# Altium footprint library Cnverter.PcbLib: 105 footprints (part 6 of 7)
Each footprint in its own frame and in the unit in brackets; x right, y up, seen from the top. Pads: shape width x height; smd on the part's side, far side on the other; paste and mask are expansions set on the pad; w line width, h text height; cw(c..) or ccw(c..) is an arc to the next point about the centre after c.
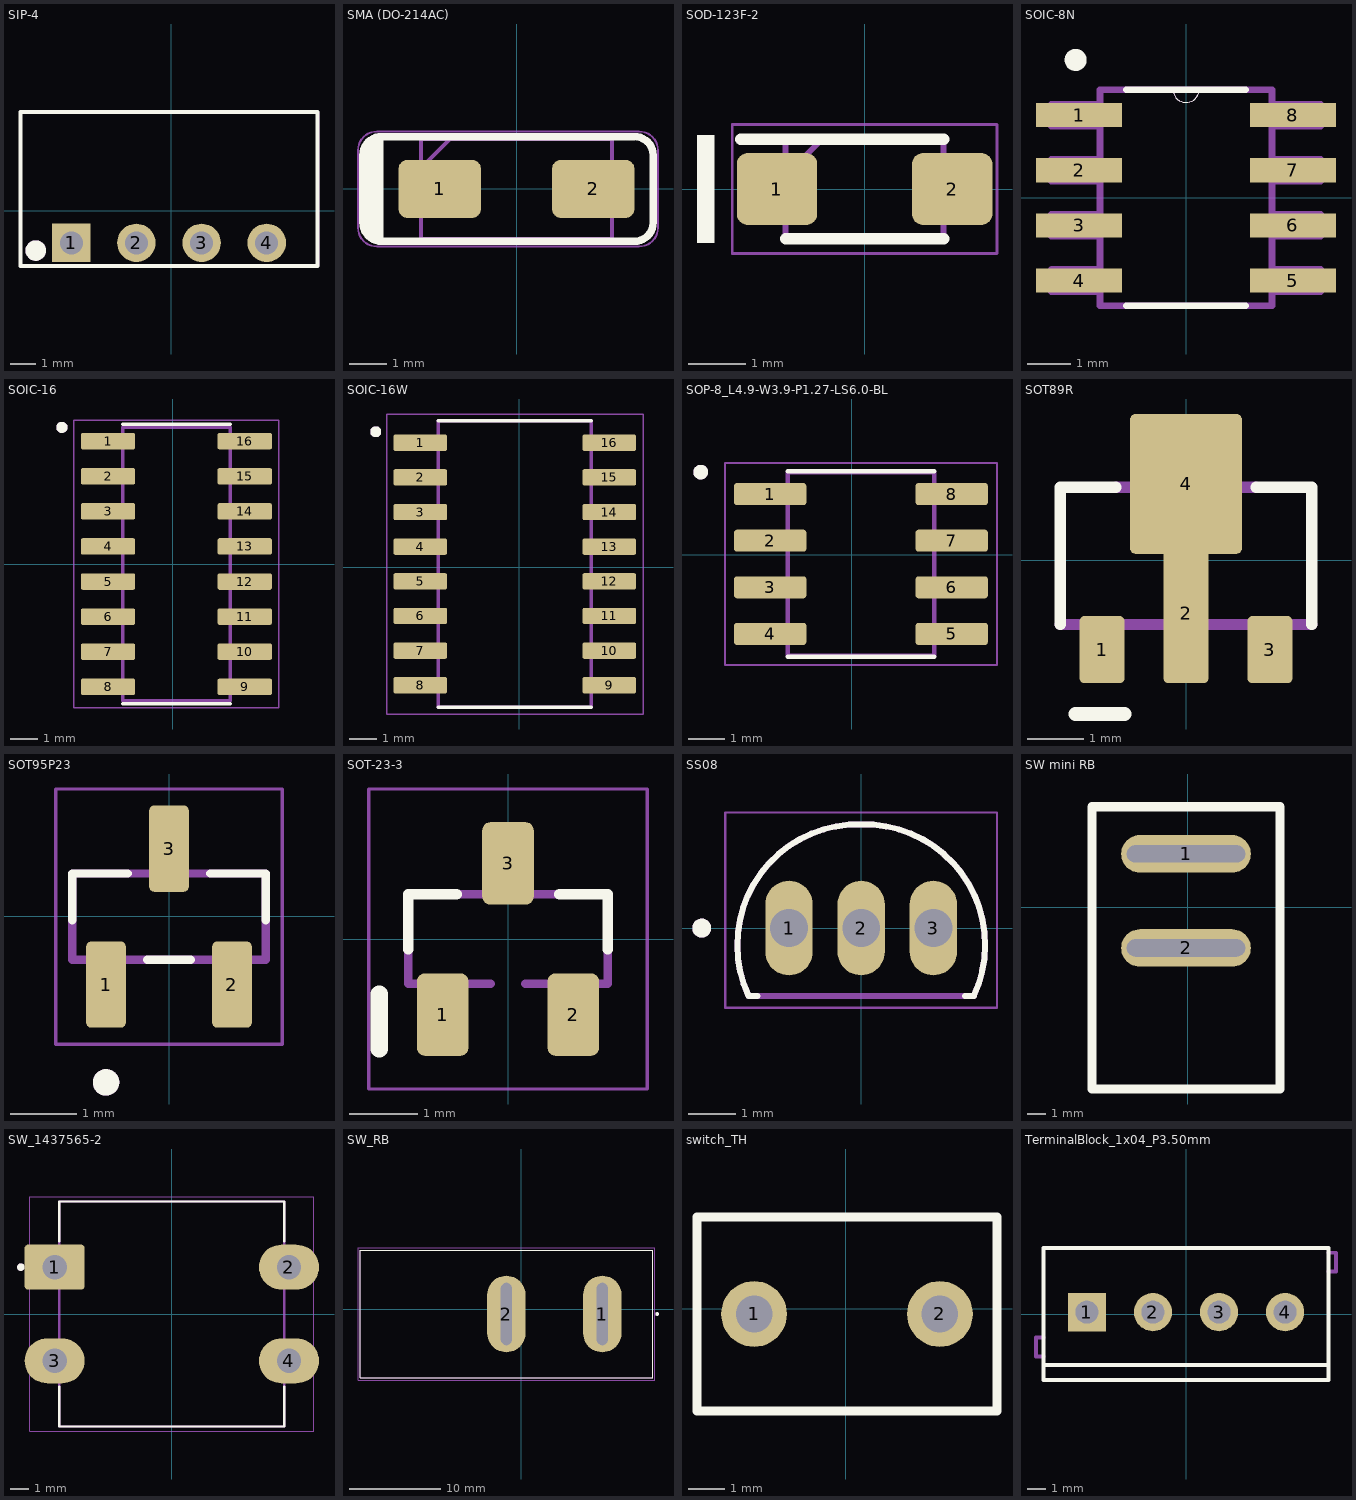
[diagram p5: the footprints below, top view; thin cyan lines are the x and y axes]

## SIP-4 [mm]
pads (4):
  rect 1.5x1.5 hole 0.9 paste+0 mask+0.051: 1(-3.891,-1.255)
  round 1.5 hole 0.9 paste+0 mask+0.051: 2(-1.351,-1.255) 3(1.189,-1.255) 4(3.729,-1.255)
Top Overlay:
  circle w0.4: c-5.281,-1.555 r0.2
  lines w0.152: -5.88,-2.154 5.718,-2.154 5.718,3.846 -5.88,3.846 -5.88,-2.154
Top Courtyard:
  circle w0.4: c-5.281,-1.555 r0.2
  region: 5.619,-2.105 5.669,-2.105 5.669,3.795 -5.831,3.795 -5.831,-2.105 -0.081,-2.105 -0.081,-2.205 -5.881,-2.205 -5.931,-2.155 -5.931,3.845 -5.881,3.895 5.719,3.895 5.769,3.845 5.769,-2.155 5.719,-2.205 -0.031,-2.205 -0.031,-2.105
3D body "B_S-1WR3_HLK.step": height 10.16, standoff -5.49, extent -5.882,-2.136 5.726,3.858

## SMA (DO-214AC) [mm] "SMA (DO-214AC)"
pads (2):
  rrect30% 2.2x1.55 smd: 1(-2.05,0) 2(2.05,0)
Top Overlay:
  rectangle: -3.86,-1.4 -3.555,1.4
  region: -4.1,0.9 -4.1,0.962 -4.076,1.084 -4.028,1.198 -3.959,1.301 -3.916,1.345 -3.861,1.4 -3.6,1.4 -3.6,-1.4 -3.624,-1.4 -3.67,-1.391 -3.714,-1.373 -3.754,-1.346 -3.771,-1.329 -4,-1.1 -4.024,-1.076 -4.061,-1.02 -4.087,-0.958 -4.1,-0.892 -4.1,-0.859 -4.1,0.6
  lines w0.2: -4.1,-0.9 ccw(c-3.6,-0.9) -3.6,-1.4 3.15,-1.4 ccw(c3.15,-0.9) 3.65,-0.9 3.65,0.9 ccw(c3.15,0.9) 3.15,1.4 -3.6,1.4 ccw(c-3.6,0.9) -4.1,0.9 -4.1,-0.9
Top Assembly:
  lines w0.1: -2.552,0.558 -1.778,1.332 ; -2.552,-1.332 2.552,-1.332 2.552,1.332 -2.552,1.332 -2.552,-1.332
Top Courtyard:
  lines w0.05: -4.232,-1.037 ccw(c-3.732,-1.037) -3.732,-1.537 3.278,-1.537 ccw(c3.278,-1.037) 3.778,-1.037 3.778,1.034 ccw(c3.278,1.034) 3.278,1.534 -3.732,1.534 ccw(c-3.732,1.034) -4.232,1.034 -4.232,-1.037
3D body "B340A-E3_61T.stp": height 2.29, standoff 0, extent -2.552,-1.332 2.552,1.332

## SOD-123F-2 [mm] "SODFL3617X108N"
pads (2):
  rrect30% 1.4x1.25 smd: 1(-1.525,0) 2(1.525,0)
Top Overlay:
  rectangle: -2.918,-0.94 -2.613,0.94
  lines w0.2: -2.155,0.862 1.375,0.862 ; -1.375,-0.862 1.375,-0.862
Top Assembly:
  lines w0.1: -1.375,0.232 -0.745,0.862 ; -1.375,-0.862 -1.375,0.862 1.375,0.862 1.375,-0.862 -1.375,-0.862
Top Courtyard:
  lines w0.05: -2.305,-1.125 -2.305,1.125 2.305,1.125 2.305,-1.125 -2.305,-1.125
3D body "MBR1020VL.stp": height 1.08, standoff 0, extent -1.8,-0.863 1.8,0.863

## SOIC-8N [mil]
pads (8):
  rect 78x22 smd: 1(-97,75) 2(-97,25) 3(-97,-25) 4(-97,-75) 5(97,-75) 6(97,-25) 7(97,25) 8(97,75)
Top Overlay:
  circle w10: c-100,125 r5
  lines w0: -12,98.08 ccw(c0,98.5) 12,98.92
  lines w6: -54,-98 54,-98 ; -54,98 -12,98 54,98
Top Assembly:
  lines w0: -12,98.08 ccw(c0,98.5) 12,98.92
  lines w6: -122,-85 -122,-65 -78,-65 -78,-85 -122,-85 ; -122,-35 -122,-15 -78,-15 -78,-35 -122,-35 ; -122,15 -122,35 -78,35 -78,15 -122,15 ; -122,65 -122,85 -78,85 -78,65 -122,65 ; -78,-98 78,-98 78,98 -12,98 -78,98 -78,-98 ; 78,-85 78,-65 122,-65 122,-85 78,-85 ; 78,-35 78,-15 122,-15 122,-35 78,-35 ; 78,15 78,35 122,35 122,15 78,15 ; 78,65 78,85 122,85 122,65 78,65
3D body "step_temp.STEP": height 67.32, standoff 0, extent -122.05,-98.43 122.05,98.43

## SOIC-16 [mm]
pads (16):
  rrect25% 1.97x0.6 smd paste+0 mask+0.102: 1(-2.348,4.445) 2(-2.348,3.175) 3(-2.348,1.905) 4(-2.348,0.635) 5(-2.348,-0.635) 6(-2.348,-1.905) 7(-2.348,-3.175) 8(-2.348,-4.445) 9(2.602,-4.445) 10(2.602,-3.175) 11(2.602,-1.905) 12(2.602,-0.635) 13(2.602,0.635) 14(2.602,1.905) 15(2.602,3.175) 16(2.602,4.445)
Top Overlay:
  circle w0.2: c-4.018,4.945 r0.1
  lines w0.127: -1.823,-5.065 2.077,-5.065 ; -1.823,5.065 2.077,5.065
Top Assembly:
  circle w0.2: c-4.018,4.945 r0.1
  lines w0.127: -1.823,-4.95 2.077,-4.95 2.077,4.95 -1.823,4.95 -1.823,-4.95
Top Courtyard:
  lines w0.05: -3.583,-5.2 3.837,-5.2 3.837,5.2 -3.583,5.2 -3.583,-5.2
3D body "step_temp.STEP": height 1.75, standoff 0, extent -2.873,-4.95 3.127,4.95

## SOIC-16W [mm]
pads (16):
  rrect25% 1.97x0.6 smd: 1(-3.628,4.572) 2(-3.628,3.302) 3(-3.628,2.032) 4(-3.628,0.762) 5(-3.628,-0.508) 6(-3.628,-1.778) 7(-3.628,-3.048) 8(-3.628,-4.318) 9(3.302,-4.318) 10(3.302,-3.048) 11(3.302,-1.778) 12(3.302,-0.508) 13(3.302,0.762) 14(3.302,2.032) 15(3.302,3.302) 16(3.302,4.572)
Top Overlay:
  circle w0.2: c-5.263,4.977 r0.1
  lines w0.127: -2.963,-5.123 2.637,-5.123 ; -2.963,5.377 2.637,5.377
Top Assembly:
  circle w0.2: c-5.263,4.977 r0.1
  lines w0.127: -2.963,-5.123 -2.963,5.377 2.637,5.377 2.637,-5.123 -2.963,-5.123
Top Courtyard:
  lines w0.05: -4.863,-5.373 -4.863,5.627 4.537,5.627 4.537,-5.373 -4.863,-5.373

## SOP-8_L4.9-W3.9-P1.27-LS6.0-BL [mm]
pads (8):
  rrect25% 1.97x0.6 smd: 1(-2.221,1.651) 2(-2.221,0.381) 3(-2.221,-0.889) 4(-2.221,-2.159) 5(2.729,-2.159) 6(2.729,-0.889) 7(2.729,0.381) 8(2.729,1.651)
Top Overlay:
  circle w0.2: c-4.116,2.251 r0.1
  lines w0.127: -1.746,-2.779 2.254,-2.779 ; -1.746,2.271 2.254,2.271
Top Assembly:
  circle w0.2: c-4.116,2.251 r0.1
  lines w0.127: -1.746,-2.754 -1.746,2.246 2.254,2.246 2.254,-2.754 -1.746,-2.754
Top Courtyard:
  lines w0.05: -3.456,-3.004 -3.456,2.496 3.964,2.496 3.964,-3.004 -3.456,-3.004
3D body "step_temp.STEP": height 1.75, standoff 0, extent -2.746,-2.704 3.254,2.196

## SOT89R [mm]
pads (4):
  rrect20% 0.8x1.2 smd: 1(-1.5,-1.6) 3(1.5,-1.6)
  rrect20% 0.8x2.5 smd paste-2 mask+0: 2(0,-0.95)
  rrect10% 2x2.5 smd: 4(0,1.36)
Top Overlay:
  lines w0.203: -2.25,-1.15 -2.25,1.3 -1.25,1.3 ; 1.25,1.3 2.25,1.3 2.25,-1.15
  lines w0.25: -1.975,-2.75 -1.1,-2.75
Top Paste:
  region: 0.4,-2.206 -0.401,-2.206 -0.401,-1 0.4,-1
Top Solder:
  region: 0.5,-2.303 -0.501,-2.303 -0.501,-0.9 0.5,-0.9
Top Assembly:
  region: -1.27,-2.011 -1.729,-2.011 -1.729,-1.17 -1.27,-1.17
  region: 1.727,-2.014 1.274,-2.014 1.274,-1.17 1.727,-1.17
  region: 0.279,-2.011 -0.28,-2.011 -0.28,-1.17 0.279,-1.17
  region: 0.787,1.675 0.787,1.395 -0.787,1.395 -0.787,1.675 -0.356,2.107 0.356,2.107
  lines w0.203: -2.25,-1.15 2.25,-1.15 ; -1.25,1.3 1.25,1.3 ; -0.787,1.395 0.787,1.395 0.787,1.675 0.356,2.107 -0.356,2.107 -0.787,1.675 -0.787,1.395
3D body "BCX56,135.STEP": height 1.6, standoff 0, extent -2.25,-1.75 2.25,2.25

## SOT95P23 [mm]
pads (3):
  rrect25% 0.6x1.3 smd: 1(-0.95,-1.034) 2(0.95,-1.034) 3(0,1.016)
Top Overlay:
  circle w0.2: c-0.95,-2.509 r0.1
  lines w0.127: -1.46,-0.064 -1.46,0.641 -0.62,0.641 ; -0.33,-0.659 0.33,-0.659 ; 0.62,0.641 1.46,0.641 1.46,-0.064
Top Assembly:
  circle w0.2: c-0.95,-2.509 r0.1
  lines w0.127: -1.46,-0.659 1.46,-0.659 1.46,0.641 -1.46,0.641 -1.46,-0.659
Top Courtyard:
  lines w0.05: -1.71,-1.934 1.71,-1.934 1.71,1.916 -1.71,1.916 -1.71,-1.934
3D body "step_temp.STEP": height 1.12, standoff 0, extent -1.46,-1.194 1.46,1.176

## SOT-23-3 [mm]
pads (3):
  rrect30% 0.75x1.2 smd: 1(-0.95,-1.1) 2(0.95,-1.1) 3(0,1.1)
Top Overlay:
  lines w0.155: -1.45,-0.15 -1.45,0.65 -0.75,0.65 ; 0.75,0.65 1.45,0.65 1.45,-0.15
  lines w0.25: -1.875,-1.6 -1.875,-0.8
Top Assembly:
  region: -0.711,-1.298 -1.171,-1.298 -1.171,-0.711 -0.711,-0.711
  region: 1.168,-1.296 0.712,-1.296 0.712,-0.711 1.168,-0.711
  region: 0.229,0.711 -0.229,0.711 -0.229,1.295 0.229,1.295
  lines w0.127: -1.45,-0.15 -1.45,-0.65 -0.25,-0.65 ; -0.75,0.65 0.75,0.65 ; 0.25,-0.65 1.45,-0.65 1.45,-0.15
Top Courtyard:
  lines w0.051: -2.023,-2.183 -2.023,2.183 2.023,2.183 2.023,-2.183 -2.023,-2.183
3D body "SS8050-G.stp": height 1.15, standoff 0, extent -1.45,-1.175 1.45,1.225

## SS08 [mm]
pads (3):
  oval 1x2 hole 0.8: 1(-1.524,0) 2(0,0) 3(1.524,0)
Top Overlay:
  circle w0.2: c-3.368,0 r0.1
  lines w0.127: -2.38,-1.43 -2.19,-1.43 ; -2.379,-1.432 cw(c-0.071,-0.355) 0.018,2.189 ; -0.018,2.189 cw(c0.071,-0.355) 2.379,-1.432 ; 2.19,-1.43 2.38,-1.43
Top Assembly:
  circle w0.2: c-3.368,0 r0.1
  lines w0.127: -2.38,-1.43 2.38,-1.43 ; -2.379,-1.432 cw(c-0.071,-0.355) 0.018,2.189 ; -0.018,2.189 cw(c0.071,-0.355) 2.379,-1.432
Top Courtyard:
  lines w0.05: -2.868,-1.68 2.868,-1.68 2.868,2.441 -2.868,2.441 -2.868,-1.68
3D body "step_temp.STEP": height 8.77, standoff -13, extent -2.83,-1.43 2.83,2.19

## SW mini RB [mm]
pads (2):
  oval 6.9x2 hole 0.914 slot 6.3 at 0 deg paste+0 mask+0.051: 1(-0.084,2.844) 2(-0.084,-2.156)
Top Overlay:
  lines w0.5: -5.084,-9.656 4.916,-9.656 4.916,5.344 -5.084,5.344 -5.084,-9.656
Top Courtyard:
  lines w0.003: 0.741,-1.829 0.742,-1.829

## SW_1437565-2 [mm]
pads (4):
  rrect15% 3.2x2.4 hole 1.3: 1(-6.25,2.5)
  oval 3.2x2.4 hole 1.3: 2(6.25,2.5) 3(-6.25,-2.5) 4(6.25,-2.5)
Top Overlay:
  circle w0.2: c-8.05,2.5 r0.1
  lines w0.127: -6,-3.87 -6,-6 6,-6 6,-3.87 ; -6,3.87 -6,6 6,6 6,3.87
Top Assembly:
  circle w0.2: c-8.05,2.5 r0.1
  lines w0.127: -6,-6 6,-6 6,6 -6,6 -6,-6
Top Courtyard:
  lines w0.05: -7.575,-6.25 7.575,-6.25 7.575,6.25 -7.575,6.25 -7.575,-6.25
3D body "c-1437565-2-e-3d.stp": height 4.44, standoff -3.46, extent -7.045,-6 7.045,6

## SW_RB [mm]
pads (2):
  oval 4.2x8.4 hole 1.2 slot 6.8 at 90 deg mask+0.102: 1(8.849,-0.508) 2(-1.651,-0.508)
Top Overlay:
  circle w0.2: c14.849,-0.508 r0.1
  lines w0.127: -17.651,-7.508 -17.651,6.492 14.349,6.492 14.349,-7.508 -17.651,-7.508
Top Assembly:
  circle w0.2: c14.849,-0.508 r0.1
  lines w0.127: -17.651,-7.508 -17.651,6.492 14.349,6.492 14.349,-7.508 -17.651,-7.508
Top Courtyard:
  lines w0.05: -17.901,-7.758 -17.901,6.742 14.599,6.742 14.599,-7.758 -17.901,-7.758
3D body "step_temp.STEP": height 24.57, standoff -10, extent -18.001,-7.508 14.699,6.492

## switch_TH [mm]
pads (2):
  round 1.8 hole 1 paste+0 mask+0.05: 1(-2.504,-0.144) 2(2.576,-0.144)
Top Overlay:
  lines w0.254: -4.064,-2.794 -4.064,2.506 4.136,2.506 4.136,-2.794 -4.064,-2.794
Top Courtyard:
  lines w0.003: 1.496,-0.017 1.497,-0.017

## TerminalBlock_1x04_P3.50mm [mil]
pads (4):
  rect 80x80 hole 47.24 slot 47.44 at 0 deg paste+0 mask+2: 1(-206.69,3.94)
  round 80 hole 47.24 slot 47.44 at 0 deg paste+0 mask+2: 2(-68.9,3.94) 3(68.9,3.94) 4(206.7,3.94)
Top Overlay:
  lines w8: -297.24,-106.31 -297.24,-137.79 297.25,-137.79 297.25,-106.31 ; -297.24,-106.31 -297.24,137.79 297.25,137.79 297.25,-106.31 ; -297.24,-106.31 297.25,-106.31
Top Courtyard:
  lines w0.04: -189.96,3.76 cw(c-206.69,3.85) -189.96,3.93 ; -52.16,3.76 cw(c-68.89,3.85) -52.16,3.93 ; 85.63,3.76 cw(c68.9,3.85) 85.63,3.93 ; 223.43,3.76 cw(c206.7,3.85) 223.43,3.93
  lines w8: -297.24,-88.58 -312.99,-88.58 -312.99,-49.22 -297.24,-49.22 ; 297.25,88.58 312.99,88.58 312.99,127.95 297.25,127.95
3D body "1751264.stp": height 334.65, standoff -137.8, extent -286.33,-137.79 284.53,149.61